# Altium schematic symbol library 二值化摄像头原理图库.SchLib: 2 symbols
Pins are listed as number, name and electrical type; pins without a type are passive.

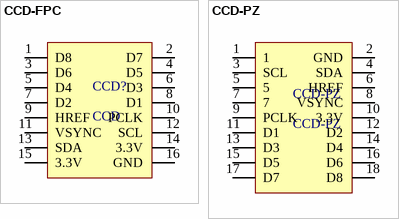
[diagram p0: symbols CCD-FPC to CCD-PZ]

## CCD-FPC
designator CCD?, comment CCD
0.5间距6P 抽屉式
footprint CCD-FPC (0.5间距 抽屉式 16P)
pins: 1 D8, 2 D7, 3 D6, 4 D5, 5 D4, 6 D3, 7 D2, 8 D1, 9 HREF, 10 PCLK, 11 VSYNC, 12 SCL, 13 SDA, 14 3.3V, 15 3.3V, 16 GND

## CCD-PZ
designator CCD-PZ
2.54间距18P排针座
footprint CCD-PZ (2.54间距 18P)
pins: 1, 2 GND, 3 SCL, 4 SDA, 5, 6 HREF, 7, 8 VSYNC, 9 PCLK, 10 3.3V, 11 D1, 12 D2, 13 D3, 14 D4, 15 D5, 16 D6, 17 D7, 18 D8